# EAGLE library part 66226-014LF (library FCI_By_element14_Batch_1)
FFC/FPC CONNECTOR, PLUG, 14POS, 1ROW
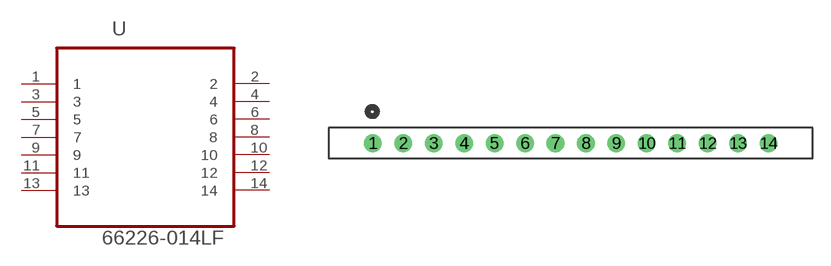
[diagram p20: symbol with the pads of FCI_66226-014LF; footprint FCI_66226-014LF]

Designator prefix U

## 66226-014LF (MPN: 66226-014LF; OC_FARNELL: 1632362; OC_NEWARK: 75K3541; PACKAGE: CONNECTOR-14POS; SUPPLIER: FCI)  [FCI_66226-014LF]
1  1  pas
2  2  pas
3  3  pas
4  4  pas
5  5  pas
6  6  pas
7  7  pas
8  8  pas
9  9  pas
10  10  pas
11  11  pas
12  12  pas
13  13  pas
14  14  pas

## Footprint FCI_66226-014LF (pad centres in mm)
drill 0.965: 1 0,0; 2 2.54,0; 3 5.08,0; 4 7.62,0; 5 10.16,0; 6 12.7,0; 7 15.24,0; 8 17.78,0; 9 20.32,0; 10 22.86,0; 11 25.4,0; 12 27.94,0; 13 30.48,0; 14 33.02,0